# EAGLE library part MFS401N-2-Z (library switches)
4PDT Switch
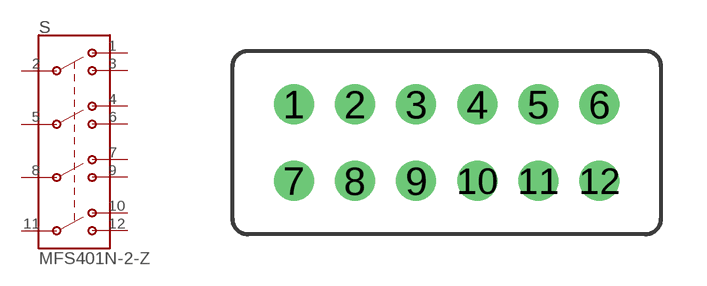
[diagram p7: symbol with the pads of MFS401N-2-Z; footprint MFS401N-2-Z]

Designator prefix S

## MFS401N-2-Z (DIGIKEY: 563-1568-ND)  [MFS401N-2-Z]
1  1TA
2  1P
3  1TB
4  2TA
5  2P
6  2TB
7  3TA
8  3P
9  3TB
10  4TA
11  4P
12  4TB

## Footprint MFS401N-2-Z (pad centres in mm)
Copal Electronics 4PDT http://www.nidec-copal-electronics.com/e/catalog/switch/mfs.pdf
drill 0.8: 1 -5,1.25; 2 -3,1.25; 3 -1,1.25; 4 1,1.25; 5 3,1.25; 6 5,1.25; 7 -5,-1.25; 8 -3,-1.25; 9 -1,-1.25; 10 1,-1.25; 11 3,-1.25; 12 5,-1.25